# EAGLE library part ESP8266-12_BREAKOUT (library mylib)
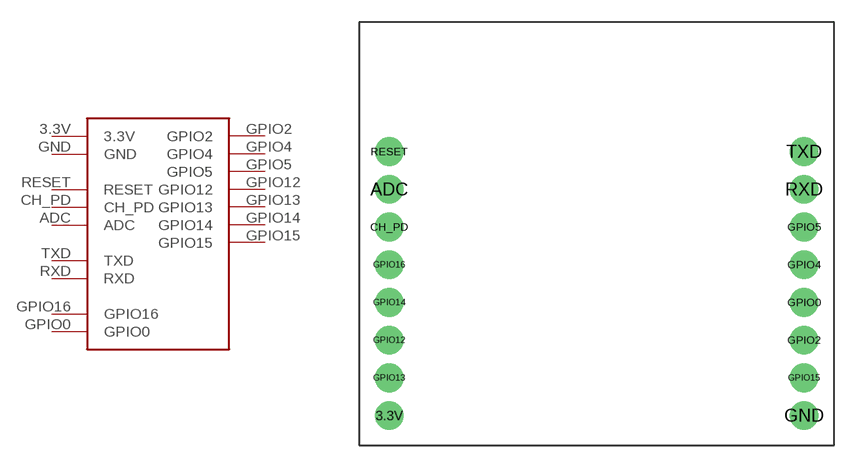
[diagram p0: symbol with the pads of ESP8266-12_BREAKOUT; footprint ESP8266-12_BREAKOUT]

Designator prefix -

## ESP8266-12_BREAKOUT  [ESP8266-12_BREAKOUT]
3.3V  3.3V
ADC  ADC
CH_PD  CH_PD
GND  GND
GPIO0  GPIO0
GPIO2  GPIO2
GPIO4  GPIO4
GPIO5  GPIO5
GPIO12  GPIO12
GPIO13  GPIO13
GPIO14  GPIO14
GPIO15  GPIO15
GPIO16  GPIO16
RESET  RESET
RXD  RXD
TXD  TXD

## Footprint ESP8266-12_BREAKOUT (pad centres in mm)
drill 0.8 pad 1.93: 3.3V -13.97,-12.25; ADC -13.97,2.99; CH_PD -13.97,0.45; GND 13.97,-12.25; GPIO0 13.97,-4.63; GPIO2 13.97,-7.17; GPIO4 13.97,-2.09; GPIO5 13.97,0.45; GPIO12 -13.97,-7.17; GPIO13 -13.97,-9.71; GPIO14 -13.97,-4.63; GPIO15 13.97,-9.71; GPIO16 -13.97,-2.09; RESET -13.97,5.53; RXD 13.97,2.99; TXD 13.97,5.53